# Altium schematic symbol library WSLP3921L2000FEA.SchLib: 1 symbol
Pins are listed as number, name and electrical type; pins without a type are passive.

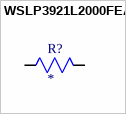
[diagram p0: symbol WSLP3921L2000FEA]

## WSLP3921L2000FEA
designator R?
footprint WSLP3921L2000FEA
pins: 1, 2